# Altium schematic symbol library WIKA.SchLib: 1 symbol
Pins are listed as number, name and electrical type; pins without a type are passive.

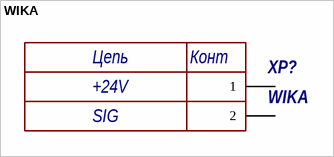
[diagram p0: symbol WIKA]

## WIKA
designator XP?
Два отверстия под клеммы для подключения к датчику давления
pins: 1, 2
text: Цепь; Конт; +24V; SIG